# EAGLE library part SFT722N-S (library PAS)
RGB LED Mouser Part #: 889-SFT722N-S Manufacturer Part #: SFT722N-S Manufacturer: Seoul Semiconductor Description: Standard LED - SMD RGB, Full Color 623/527/460nm
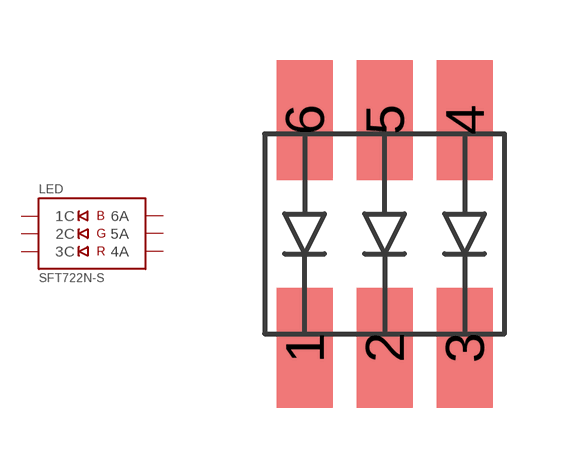
[diagram p18: symbol with the pads of PLCC-6; footprint PLCC-6]

Designator prefix LED

## SFT722N-S  [PLCC-6]
1  1C  pas
2  2C  pas
3  3C  pas
4  4A  pas
5  5A  pas
6  6A  pas

## Footprint PLCC-6 (pad centres in mm)
6x5x2.5 mm package with 6 Leads
smd 1.4 x 3: 1 -2,-2.85; 2 0,-2.85; 3 2,-2.85; 4 2,2.85; 5 0,2.85; 6 -2,2.85